# EAGLE library part TMC428-PI24 (library trinamic)
TRINAMIC 3-axis economic miniature microstepping stepper motion controller Information given in this library is believed to be accurate and reliable. However no warranty is given for its correctness. Datasheet for TMC428 <http://www.trinamic.com/tmc/media/Downloads/integrated_circuits/Tmc428/tmc428_datasheet.pdf> Description 3-axis economic miniature microstepping stepper motion controller *** to be replaced by TMC429 *** The TMC428 is a miniaturized low cost, but high performance stepper motor controller for up to three motors. It integrates all real time critical tasks in reliable, dedicated hardware: An integrated motion ramp profile generator as well as an adaptable microstep sequencer with microstep RAM table. Advanced stop- and reference switch handling allows for precise and fast referencing as well as on-the-fly position checking. Automatic motor current control gives high motor dynamics while saving energy. The interrupt output can generate precise position pulses. The TMC428 connects to the TRINAMICs SPI™ drivers (TMC236,TMC239,TMC246 and TMC249) or to Step-/direction drivers. A second SPI™ interface allows communication with a host microcontroller. The host microcontroller just needs to do high-level control tasks, e.g. giving the command: Drive motor 2 to position 1000. The TMC428 then automatically calculates the motion ramp based on velocity and acceleration parameters. The TMC423 adds encoder functionality as well as step- direction impulse forming to the TMC428. Evaluation Boards, application notes, spreadsheets for parameter calculation, C code examples and schematics are available in order to support short design-in times. TMC 428 - The small but intelligent Controller: Miniaturized low-cost 3 axes motor controller High-performance micro stepping SPI interface with easy-to-use protocol On-the-fly alteration of position set point Specifications Controls up to three 2-phase stepper motors Serial 4-wire interface for µC with easy-to-use protocol Configurable interface for SPI™ motor drivers Different types of SPI™ stepper motor driver chips may by mixed within a single daisy chain Communication on demand minimizes traffic to the SPI™ stepper motor drivers chain Allows read-out of driver status information Programmable SPI™ data rates up to 1 Mbit/s Wide range for clock frequency - can use CPU clock up to 16 MHz Internal 24 bit wide position counters Full step frequencies up to 20 kHz Individual micro step resolution of {64, 32, 16, 8, 4, 2, 1} micro steps Programmable 6 bit micro step table with up to 64 entries for a quarter sine wave period On-the-fly alteration of target motion parameters (like position, velocity, acceleration) Read-out facility for current motion parameters (position, velocity, acceleration) Power down mode (100 µA) with transparent wake-up for normal operation (typ. 10 mA @ 16 MHz) 3.3V or 5V operation with CMOS / TTL compatible IOs (all inputs Schmitt-Trigger) Ultra small 16 pin SSOP package (optional 24 pin SOIC package) Integrated power-on-reset
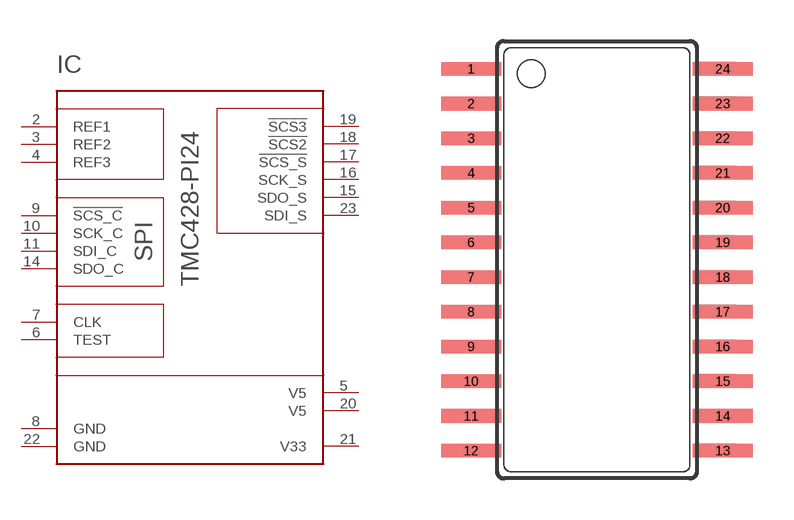
[diagram p9: symbol with the pads of SOP24; footprint SOP24]

Designator prefix IC

## TMC428-PI24  [SOP24]
2  REF1  in
3  REF2  in
4  REF3  in
5  V5  in
6  TEST  in
7  CLK  in
8  GND  in
9  !SCS_C  in
10  SCK_C  in
11  SDI_C  in
14  SDO_C  hiz
15  SDO_S  out
16  SCK_S  out
17  !SCS_S  out
18  !SCS2  out
19  !SCS3  out
20  V5  in
21  V33  in
22  GND  in
23  SDI_S

## Footprint SOP24 (pad centres in mm)
smd 2.2 x 0.5: 1 -4.6,6.985; 2 -4.6,5.715; 3 -4.6,4.445; 4 -4.6,3.175; 5 -4.6,1.905; 6 -4.6,0.635; 7 -4.6,-0.635; 8 -4.6,-1.905; 9 -4.6,-3.175; 10 -4.6,-4.445; 11 -4.6,-5.715; 12 -4.6,-6.985; 13 4.6,-6.985; 14 4.6,-5.715; 15 4.6,-4.445; 16 4.6,-3.175; 17 4.6,-1.905; 18 4.6,-0.635; 19 4.6,0.635; 20 4.6,1.905; 21 4.6,3.175; 22 4.6,4.445; 23 4.6,5.715; 24 4.6,6.985